# Altium footprint library Passives.PcbLib: 62 footprints (part 2 of 4)
Each footprint in its own frame and in the unit in brackets; x right, y up, seen from the top. Pads: shape width x height; smd on the part's side, far side on the other; paste and mask are expansions set on the pad; w line width, h text height; cw(c..) or ccw(c..) is an arc to the next point about the centre after c.
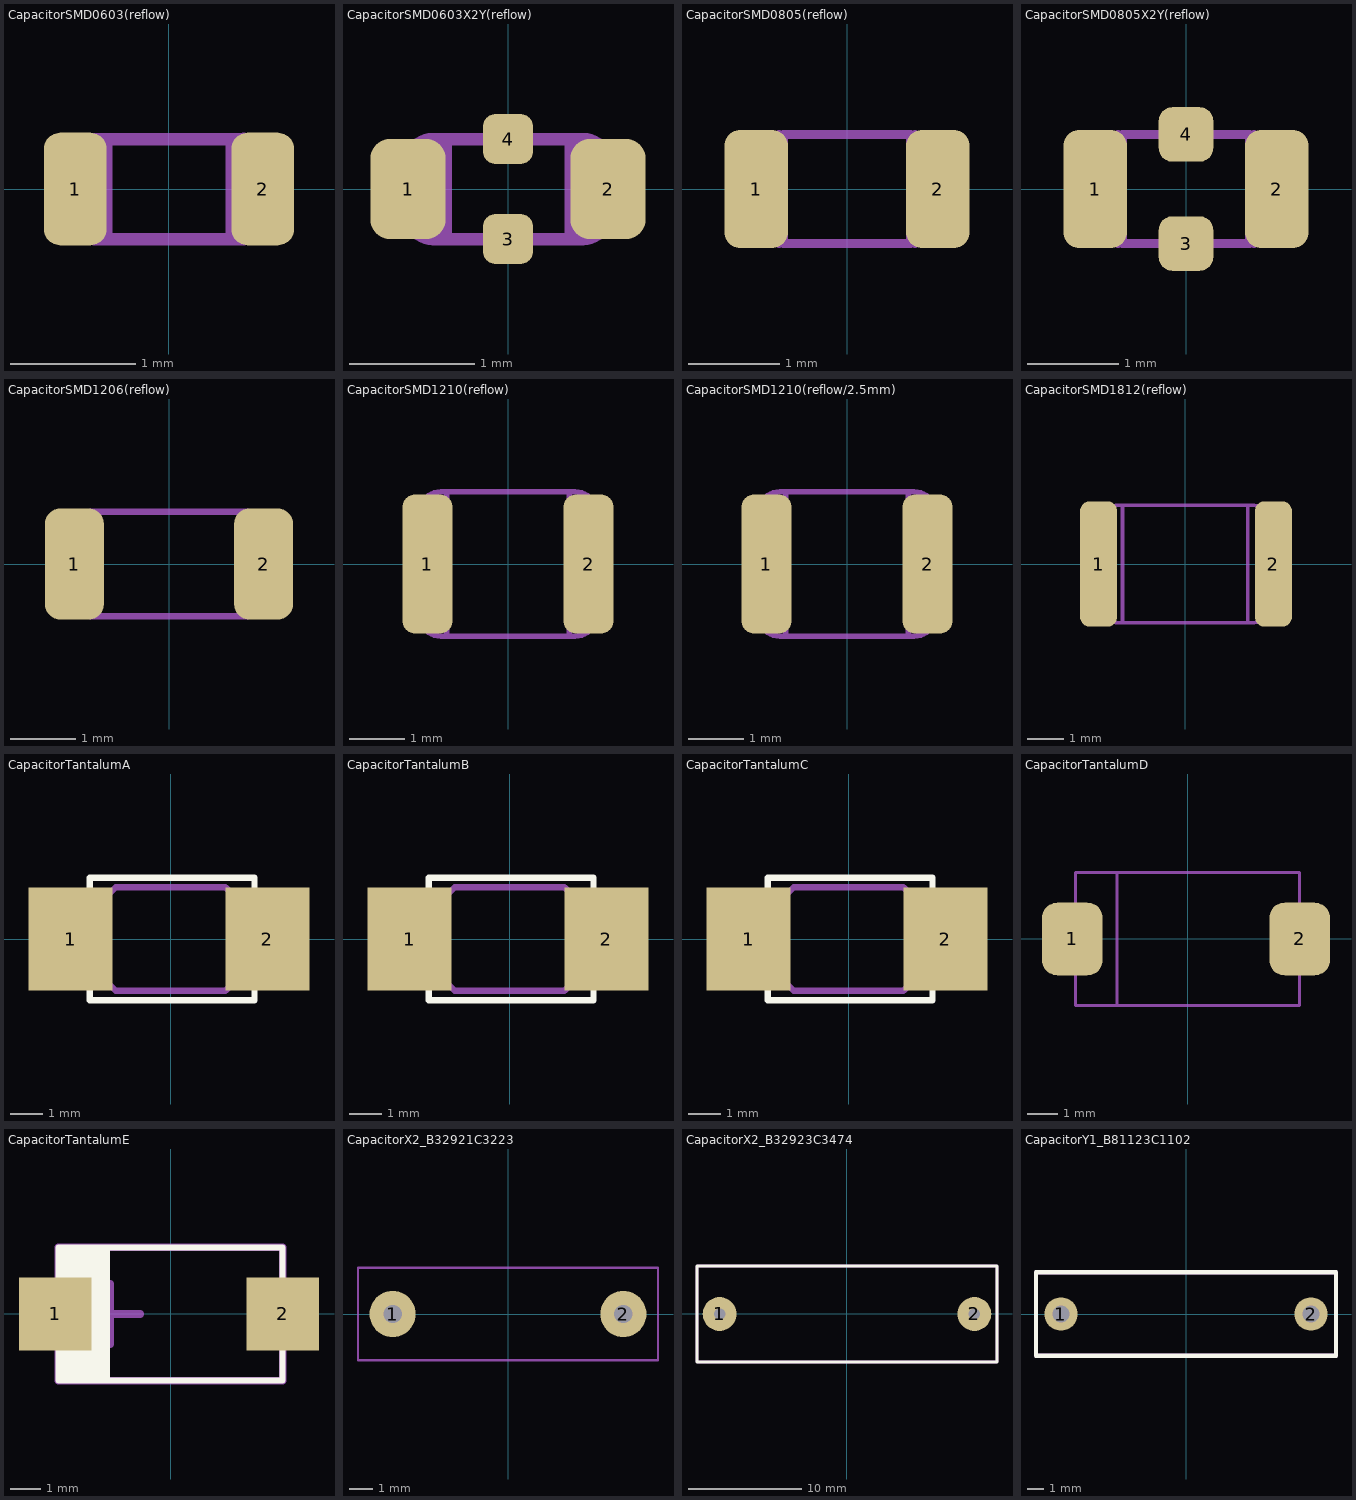
[diagram p1: the footprints below, top view; thin cyan lines are the x and y axes]

## CapacitorSMD0603(reflow) [mm]
height 0.45
pads (2):
  rrect50% 0.5x0.9 smd: 1(-0.75,0) 2(0.75,0)
Mechanical 1:
  lines w0.1: -0.5,-0.4 -0.5,0.4 ; 0.5,-0.4 0.5,0.4 ; -0.8,-0.2 ccw(c-0.6,-0.2) -0.6,-0.4 0.6,-0.4 ccw(c0.6,-0.2) 0.8,-0.2 0.8,0.2 ccw(c0.6,0.2) 0.6,0.4 -0.6,0.4 ccw(c-0.6,0.2) -0.8,0.2 -0.8,-0.2
Mechanical 13:
  text ".Designator" at -1,1 h1
Mechanical 14:
  text ".Comment" at -1,1 h1
3D body: height 0.3, standoff 0, extent -0.8,-0.4 0.8,0.4

## CapacitorSMD0603X2Y(reflow) [mm]
height 0.45
pads (4):
  rrect50% 0.6x0.8 smd: 1(-0.8,0) 2(0.8,0)
  rrect50% 0.4x0.4 smd: 3(0,-0.4) 4(0,0.4)
Mechanical 1:
  lines w0.1: -0.5,-0.4 -0.5,0.4 ; 0.5,-0.4 0.5,0.4 ; -0.8,-0.2 ccw(c-0.6,-0.2) -0.6,-0.4 0.6,-0.4 ccw(c0.6,-0.2) 0.8,-0.2 0.8,0.2 ccw(c0.6,0.2) 0.6,0.4 -0.6,0.4 ccw(c-0.6,0.2) -0.8,0.2 -0.8,-0.2
Mechanical 13:
  text ".Designator" at -1,-0.3 h1
Mechanical 14:
  text ".Comment" at -1.2,-0.3 h1
3D body: height 0.45, standoff 0, extent -0.8,-0.4 0.8,0.4

## CapacitorSMD0805(reflow) [mm]
height 0.45
pads (2):
  rrect50% 0.7x1.3 smd: 1(-1,0) 2(1,0)
Mechanical 1:
  lines w0.1: -0.7,-0.6 cw(c-0.7,-0.3) -1,-0.3 -1,0.3 cw(c-0.7,0.3) -0.7,0.6 ; -0.7,-0.6 0.7,-0.6 ; -0.7,-0.6 -0.7,0.6 ; -0.7,0.6 0.7,0.6 ; 0.7,-0.6 ccw(c0.7,-0.3) 1,-0.3 1,0.3 ccw(c0.7,0.3) 0.7,0.6 ; 0.7,-0.6 0.7,0.6
Mechanical 13:
  text ".Designator" at -1.2,1.8 h1
Mechanical 14:
  text ".Comment" at -1.2,1.8 h1
3D body: height 0.6, standoff 0, extent -0.7,-0.65 0.7,0.65
3D body: height 0.6, standoff 0, extent -1.05,-0.65 -0.7,0.65
3D body: height 0.6, standoff 0, extent 0.7,-0.65 1.05,0.65

## CapacitorSMD0805X2Y(reflow) [mm]
height 0.45
pads (4):
  rrect50% 0.7x1.3 smd: 1(-1,0) 2(1,0)
  rrect50% 0.6x0.6 smd: 3(0,-0.6) 4(0,0.6)
Mechanical 1:
  lines w0.1: -0.7,-0.6 cw(c-0.7,-0.3) -1,-0.3 -1,0.3 cw(c-0.7,0.3) -0.7,0.6 ; -0.7,-0.6 0.7,-0.6 ; -0.7,-0.6 -0.7,0.6 ; -0.7,0.6 0.7,0.6 ; 0.7,-0.6 ccw(c0.7,-0.3) 1,-0.3 1,0.3 ccw(c0.7,0.3) 0.7,0.6 ; 0.7,-0.6 0.7,0.6
Mechanical 13:
  text ".Designator" at -1.2,1.8 h1
Mechanical 14:
  text ".Comment" at -1.2,1.8 h1
3D body: height 0.6, standoff 0, extent -0.25,-0.65 0.25,-0.5
3D body: height 0.6, standoff 0, extent -0.25,0.5 0.25,0.65
3D body: height 0.6, standoff 0, extent 0.7,-0.65 1.05,0.65
3D body: height 0.6, standoff 0, extent -1.05,-0.65 -0.7,0.65
3D body: height 0.6, standoff 0, extent -0.7,-0.65 0.7,0.65

## CapacitorSMD1206(reflow) [mm]
height 0.6
pads (2):
  rrect50% 0.9x1.7 smd: 1(-1.45,0) 2(1.45,0)
Mechanical 1:
  lines w0.1: -1.1,-0.8 -1.1,0.8 ; 1.1,-0.8 1.1,0.8 ; -1.6,-0.4 ccw(c-1.2,-0.4) -1.2,-0.8 1.2,-0.8 ccw(c1.2,-0.4) 1.6,-0.4 1.6,0.4 ccw(c1.2,0.4) 1.2,0.8 -1.2,0.8 ccw(c-1.2,0.4) -1.6,0.4 -1.6,-0.4
Mechanical 13:
  text ".Designator" at -1.8,1.4 h1
Mechanical 14:
  text ".Comment" at -1.8,1.4 h1
3D body: height 1, standoff 0, extent -1.6,-0.8 1.6,0.8

## CapacitorSMD1210(reflow) [mm]
height 0.6
pads (2):
  rrect50% 0.9x2.5 smd: 1(-1.45,0) 2(1.45,0)
Mechanical 1:
  lines w0.1: -1.1,-1.3 -1.1,1.3 ; 1.1,-1.3 1.1,1.3 ; -1.6,-0.9 ccw(c-1.2,-0.9) -1.2,-1.3 1.2,-1.3 ccw(c1.2,-0.9) 1.6,-0.9 1.6,0.9 ccw(c1.2,0.9) 1.2,1.3 -1.2,1.3 ccw(c-1.2,0.9) -1.6,0.9 -1.6,-0.9
Mechanical 13:
  text ".Designator" at 0.3,-1 h1
Mechanical 14:
  text ".Comment" at 0.3,-1 h1
3D body: height 0.6, standoff 0, extent -1.6,-1.3 -1.1,1.3
3D body: height 0.6, standoff 0, extent 1.1,-1.3 1.6,1.3
3D body: height 0.6, standoff 0, extent -1.1,-1.3 1.1,1.3

## CapacitorSMD1210(reflow/2.5mm) [mm]
height 0.6
pads (2):
  rrect50% 0.9x2.5 smd: 1(-1.45,0) 2(1.45,0)
Mechanical 1:
  lines w0.1: -1.1,-1.3 -1.1,1.3 ; 1.1,-1.3 1.1,1.3 ; -1.6,-0.9 ccw(c-1.2,-0.9) -1.2,-1.3 1.2,-1.3 ccw(c1.2,-0.9) 1.6,-0.9 1.6,0.9 ccw(c1.2,0.9) 1.2,1.3 -1.2,1.3 ccw(c-1.2,0.9) -1.6,0.9 -1.6,-0.9
Mechanical 13:
  text ".Designator" at 0.3,-1 h1
Mechanical 14:
  text ".Comment" at 0.3,-1 h1
3D body: height 2.5, standoff 0, extent -1.6,-1.3 -1.1,1.3
3D body: height 2.5, standoff 0, extent 1.1,-1.3 1.6,1.3
3D body: height 2.5, standoff 0, extent -1.1,-1.3 1.1,1.3

## CapacitorSMD1812(reflow) [mm]
height 0.6
pads (2):
  rrect50% 1x3.4 smd: 1(-2.35,0) 2(2.4,0)
Mechanical 1:
  lines w0.1: -1.7,-1.6 -1.7,1.6 ; 1.7,-1.6 1.7,1.6 ; -2.3,-1.1 ccw(c-1.8,-1.1) -1.8,-1.6 1.8,-1.6 ccw(c1.8,-1.1) 2.3,-1.1 2.3,1.1 ccw(c1.8,1.1) 1.8,1.6 -1.5,1.6 -1.8,1.6 ccw(c-1.8,1.1) -2.3,1.1 -2.3,-1.1
Mechanical 13:
  text ".Designator" at -3,2.4 h1
Mechanical 14:
  text ".Comment" at -3,2.4 h1
3D body: height 0.6, standoff 0, extent 1.7,-1.6 2.3,1.6
3D body: height 0.6, standoff 0, extent -2.3,-1.6 -1.7,1.6
3D body: height 0.6, standoff 0, extent -1.7,-1.6 1.7,1.6

## CapacitorTantalumA [mm]
pads (2):
  rect 2.6x3.2 smd: 1(-3.1,0) 2(3,0)
Top Overlay:
  lines w0.2: -2.5,-1.9 2.6,-1.9 2.6,1.9 -2.5,1.9 -2.5,-1.9
Mechanical 1:
  lines w0.2: -2.3,-1 -1.7,-1.6 1.7,-1.6 2.3,-1 2.3,1 1.7,1.6 -1.5,1.6 -1.7,1.6 -2.3,1 -2.3,-1
3D body: height 0.6, standoff 0, extent -2.3,-1.6 2.3,1.6

## CapacitorTantalumB [mm]
pads (2):
  rect 2.6x3.2 smd: 1(-3.1,0) 2(3,0)
Top Overlay:
  lines w0.2: -2.5,-1.9 2.6,-1.9 2.6,1.9 -2.5,1.9 -2.5,-1.9
Mechanical 1:
  lines w0.2: -2.3,-1 -1.7,-1.6 1.7,-1.6 2.3,-1 2.3,1 1.7,1.6 -1.5,1.6 -1.7,1.6 -2.3,1 -2.3,-1
3D body: height 0.6, standoff 0, extent -2.3,-1.6 2.3,1.6

## CapacitorTantalumC [mm]
pads (2):
  rect 2.6x3.2 smd: 1(-3.1,0) 2(3,0)
Top Overlay:
  lines w0.2: -2.5,-1.9 2.6,-1.9 2.6,1.9 -2.5,1.9 -2.5,-1.9
Mechanical 1:
  lines w0.2: -2.3,-1 -1.7,-1.6 1.7,-1.6 2.3,-1 2.3,1 1.7,1.6 -1.5,1.6 -1.7,1.6 -2.3,1 -2.3,-1
3D body: height 0.6, standoff 0, extent -2.3,-1.6 2.3,1.6

## CapacitorTantalumD [mm]
pads (2):
  rrect50% 2x2.4 smd: 1(-3.8,0) 2(3.7,0)
Mechanical 1:
  lines w0.1: -2.325,-2.2 -2.325,2.2 ; -3.7,-2.2 -3.7,2.2 3.7,2.2 3.7,-2.2 -3.7,-2.2
3D body: height 2.9, standoff 2.8, extent -3,-2 -2,2
3D body: height 2.8, standoff 0, extent -3.7,-2.2 3.7,2.2

## CapacitorTantalumE [mm]
pads (2):
  rect 2.4x2.4 smd: 1(-3.8,0) 2(3.7,0)
Top Overlay:
  region: -3.7,2.2 -2,2.2 -2,-2.2 -3.7,-2.2
  lines w0.2: -3.7,-2.2 3.7,-2.2 3.7,2.2 -3.7,2.2 -3.7,-2.2
Mechanical 1:
  lines w0.254: -3,0 -1,0 ; -2,-1 -2,1 ; -3.7,-2.2 -3.7,2.2 3.7,2.2 3.7,-2.2 -3.7,-2.2
3D body: height 4, standoff 0, extent -3.7,-2.2 3.7,2.2

## CapacitorX2_B32921C3223 [mm]
pads (2):
  round 2 hole 0.8: 1(-5,0) 2(5,0)
Mechanical 1:
  lines w0.1: -6.5,-2 6.5,-2 6.5,2 -6.5,2 -6.5,-2
Mechanical 13:
  text ".Designator" at -2.5,-0.5 h1
3D body: height 9, standoff 0, extent -6.5,-2 6.5,2

## CapacitorX2_B32923C3474 [mm]
pads (2):
  round 3 hole 1: 1(-11.25,0) 2(11.25,0)
Top Overlay:
  lines w0.254: -13.25,-4.25 -13.25,4.25 13.25,4.25 13.25,-4.25 -13.25,-4.25
Mechanical 1:
  lines w0.254: -13.25,-4.25 -13.25,4.25 13.25,4.25 13.25,-4.25 -13.25,-4.25
3D body: height 16.5, standoff 0.5, extent -13.25,-4.25 13.25,4.25

## CapacitorY1_B81123C1102 [mm]
pads (2):
  round 2 hole 1: 1(-7.5,0) 2(7.5,0)
Top Overlay:
  lines w0.254: -9,-2.5 -9,2.5 9,2.5 9,-2.5 -9,-2.5
Mechanical 1:
  lines w0.254: -9,-2.5 -9,2.5 9,2.5 9,-2.5 -9,-2.5
3D body: height 10.5, standoff 0.5, extent -9,-2.5 9,2.5